# Altium footprint library Silicon Die Holders.PcbLib: 7 footprints
Each footprint in its own frame and in the unit in brackets; x right, y up, seen from the top. Pads: shape width x height; smd on the part's side, far side on the other; paste and mask are expansions set on the pad; w line width, h text height; cw(c..) or ccw(c..) is an arc to the next point about the centre after c.
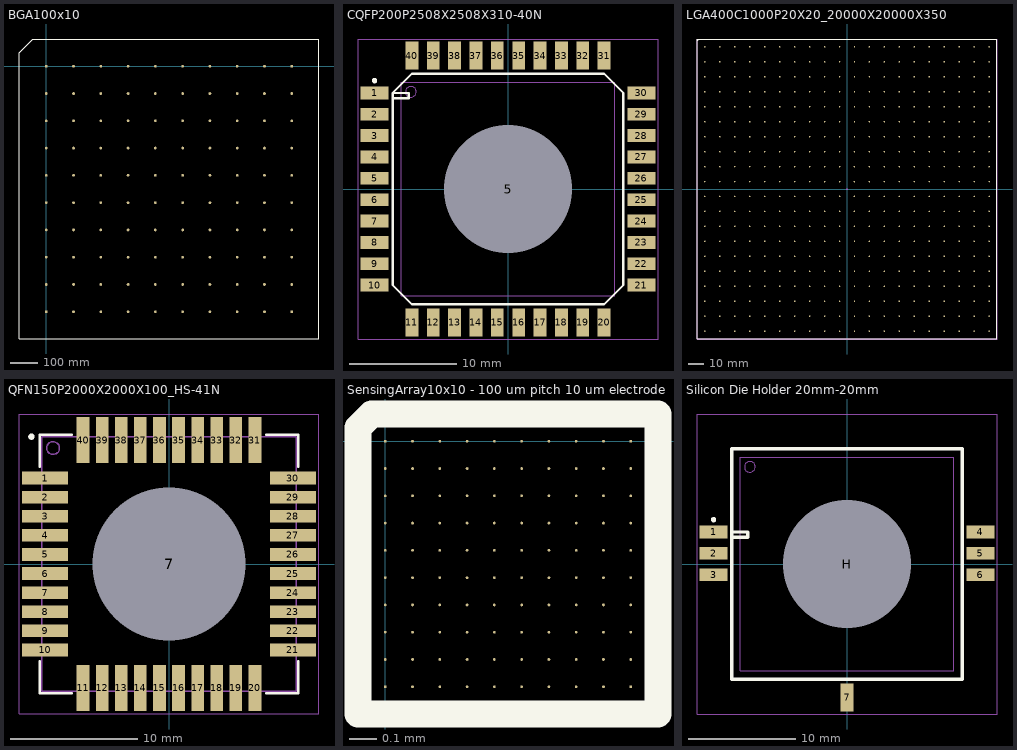
[diagram p0: the footprints below, top view; thin cyan lines are the x and y axes]

## BGA100x10 [mm]
pads (100):
  round 10 smd: A1(0,0) A2(100,0) A3(200,0) A4(300,0) A5(400,0) A6(500,0) A7(600,0) A8(700,0) A9(800,0) A10(900,0) B1(0,-100) B2(100,-100) B3(200,-100) B4(300,-100) B5(400,-100) B6(500,-100) B7(600,-100) B8(700,-100) B9(800,-100) B10(900,-100) C1(0,-200) C2(100,-200) C3(200,-200) C4(300,-200) C5(400,-200) C6(500,-200) C7(600,-200) C8(700,-200) C9(800,-200) C10(900,-200) D1(0,-300) D2(100,-300) D3(200,-300) D4(300,-300) D5(400,-300) D6(500,-300) D7(600,-300) D8(700,-300) D9(800,-300) D10(900,-300) E1(0,-400) E2(100,-400) E3(200,-400) E4(300,-400) E5(400,-400) E6(500,-400) E7(600,-400) E8(700,-400) E9(800,-400) E10(900,-400) F1(0,-500) F2(100,-500) F3(200,-500) F4(300,-500) F5(400,-500) F6(500,-500) F7(600,-500) F8(700,-500) F9(800,-500) F10(900,-500) G1(0,-600) G2(100,-600) G3(200,-600) G4(300,-600) G5(400,-600) G6(500,-600) G7(600,-600) G8(700,-600) G9(800,-600) G10(900,-600) H1(0,-700) H2(100,-700) H3(200,-700) H4(300,-700) H5(400,-700) H6(500,-700) H7(600,-700) H8(700,-700) H9(800,-700) H10(900,-700) J1(0,-800) J2(100,-800) J3(200,-800) J4(300,-800) J5(400,-800) J6(500,-800) J7(600,-800) J8(700,-800) J9(800,-800) J10(900,-800) K1(0,-900) K2(100,-900) K3(200,-900) K4(300,-900) K5(400,-900) K6(500,-900) K7(600,-900) K8(700,-900) K9(800,-900) K10(900,-900)
Top Overlay:
  lines w0.2: -100,-1000 -100,50 -50,100 1000,100 1000,-1000 -100,-1000

## CQFP200P2508X2508X310-40N [mm] "CQFP, 40-Leads, Body 25.08x25.08mm, Pitch 2.00mm, IPC Medium Density"
height 3.1
pads (41):
  rect 2.6x1.2 smd: 1(-12.5,9) 2(-12.5,7) 3(-12.5,5) 4(-12.5,3) 5(-12.5,1) 6(-12.5,-1) 7(-12.5,-3) 8(-12.5,-5) 9(-12.5,-7) 10(-12.5,-9) 21(12.5,-9) 22(12.5,-7) 23(12.5,-5) 24(12.5,-3) 25(12.5,-1) 26(12.5,1) 27(12.5,3) 28(12.5,5) 29(12.5,7) 30(12.5,9)
  round 1.524 hole 12 unplated: 5(0,0)
  rect 1.2x2.6 smd: 11(-9,-12.5) 12(-7,-12.5) 13(-5,-12.5) 14(-3,-12.5) 15(-1,-12.5) 16(1,-12.5) 17(3,-12.5) 18(5,-12.5) 19(7,-12.5) 20(9,-12.5) 31(9,12.5) 32(7,12.5) 33(5,12.5) 34(3,12.5) 35(1,12.5) 36(-1,12.5) 37(-3,12.5) 38(-5,12.5) 39(-7,12.5) 40(-9,12.5)
Top Overlay:
  circle w0.25: c-12.5,10.15 r0.125
  lines w0.2: -10.8,8.5 -9.3,8.5 -9.3,9 -10.8,9 ; -10.8,9 -10.8,-9 -9,-10.8 9,-10.8 10.8,-9 10.8,9 9,10.8 -9,10.8 -10.8,9
Mechanical 13:
  circle w0.1: c-9.1,9.1 r0.5
  lines w0.1: -10,-10 -10,10 10,10 10,-10 -10,-10
Mechanical 15:
  lines w0.05: -14.05,-14.05 -14.05,14.05 14.05,14.05 14.05,-14.05 -14.05,-14.05
  lines w0.1: -0.5,0 0.5,0 ; 0,-0.5 0,0.5
3D body: height 3.1, standoff 0.25, extent -10,-10 10,10

## LGA400C1000P20X20_20000X20000X350 [mm] "LGA, 400-Leads, Body 200.00x200.00mmx3.50mm, Pitch 10.00mm (scale x100)"
height 3.5
pads (400):
  round 1 smd: A1(-95,95) A2(-85,95) A3(-75,95) A4(-65,95) A5(-55,95) A6(-45,95) A7(-35,95) A8(-25,95) A9(-15,95) A10(-5,95) A11(5,95) A12(15,95) A13(25,95) A14(35,95) A15(45,95) A16(55,95) A17(65,95) A18(75,95) A19(85,95) A20(95,95) B1(-95,85) B2(-85,85) B3(-75,85) B4(-65,85) B5(-55,85) B6(-45,85) B7(-35,85) B8(-25,85) B9(-15,85) B10(-5,85) B11(5,85) B12(15,85) B13(25,85) B14(35,85) B15(45,85) B16(55,85) B17(65,85) B18(75,85) B19(85,85) B20(95,85) C1(-95,75) C2(-85,75) C3(-75,75) C4(-65,75) C5(-55,75) C6(-45,75) C7(-35,75) C8(-25,75) C9(-15,75) C10(-5,75) C11(5,75) C12(15,75) C13(25,75) C14(35,75) C15(45,75) C16(55,75) C17(65,75) C18(75,75) C19(85,75) C20(95,75) D1(-95,65) D2(-85,65) D3(-75,65) D4(-65,65) D5(-55,65) D6(-45,65) D7(-35,65) D8(-25,65) D9(-15,65) D10(-5,65) D11(5,65) D12(15,65) D13(25,65) D14(35,65) D15(45,65) D16(55,65) D17(65,65) D18(75,65) D19(85,65) D20(95,65) E1(-95,55) E2(-85,55) E3(-75,55) E4(-65,55) E5(-55,55) E6(-45,55) E7(-35,55) E8(-25,55) E9(-15,55) E10(-5,55) E11(5,55) E12(15,55) E13(25,55) E14(35,55) E15(45,55) E16(55,55) E17(65,55) E18(75,55) E19(85,55) E20(95,55) F1(-95,45) F2(-85,45) F3(-75,45) F4(-65,45) F5(-55,45) F6(-45,45) F7(-35,45) F8(-25,45) F9(-15,45) F10(-5,45) F11(5,45) F12(15,45) F13(25,45) F14(35,45) F15(45,45) F16(55,45) F17(65,45) F18(75,45) F19(85,45) F20(95,45) G1(-95,35) G2(-85,35) G3(-75,35) G4(-65,35) G5(-55,35) G6(-45,35) G7(-35,35) G8(-25,35) G9(-15,35) G10(-5,35) G11(5,35) G12(15,35) G13(25,35) G14(35,35) G15(45,35) G16(55,35) G17(65,35) G18(75,35) G19(85,35) G20(95,35) H1(-95,25) H2(-85,25) H3(-75,25) H4(-65,25) H5(-55,25) H6(-45,25) H7(-35,25) H8(-25,25) H9(-15,25) H10(-5,25) H11(5,25) H12(15,25) H13(25,25) H14(35,25) H15(45,25) H16(55,25) H17(65,25) H18(75,25) H19(85,25) H20(95,25) J1(-95,15) J2(-85,15) J3(-75,15) J4(-65,15) J5(-55,15) J6(-45,15) J7(-35,15) J8(-25,15) J9(-15,15) J10(-5,15) J11(5,15) J12(15,15) J13(25,15) J14(35,15) J15(45,15) J16(55,15) J17(65,15) J18(75,15) J19(85,15) J20(95,15) K1(-95,5) K2(-85,5) K3(-75,5) K4(-65,5) K5(-55,5) K6(-45,5) K7(-35,5) K8(-25,5) K9(-15,5) K10(-5,5) K11(5,5) K12(15,5) K13(25,5) K14(35,5) K15(45,5) K16(55,5) K17(65,5) K18(75,5) K19(85,5) K20(95,5) L1(-95,-5) L2(-85,-5) L3(-75,-5) L4(-65,-5) L5(-55,-5) L6(-45,-5) L7(-35,-5) L8(-25,-5) L9(-15,-5) L10(-5,-5) L11(5,-5) L12(15,-5) L13(25,-5) L14(35,-5) L15(45,-5) L16(55,-5) L17(65,-5) L18(75,-5) L19(85,-5) L20(95,-5) M1(-95,-15) M2(-85,-15) M3(-75,-15) M4(-65,-15) M5(-55,-15) M6(-45,-15) M7(-35,-15) M8(-25,-15) M9(-15,-15) M10(-5,-15) M11(5,-15) M12(15,-15) M13(25,-15) M14(35,-15) M15(45,-15) M16(55,-15) M17(65,-15) M18(75,-15) M19(85,-15) M20(95,-15) N1(-95,-25) N2(-85,-25) N3(-75,-25) N4(-65,-25) N5(-55,-25) N6(-45,-25) N7(-35,-25) N8(-25,-25) N9(-15,-25) N10(-5,-25) N11(5,-25) N12(15,-25) N13(25,-25) N14(35,-25) N15(45,-25) N16(55,-25) N17(65,-25) N18(75,-25) N19(85,-25) N20(95,-25) P1(-95,-35) P2(-85,-35) P3(-75,-35) P4(-65,-35) P5(-55,-35) P6(-45,-35) P7(-35,-35) P8(-25,-35) P9(-15,-35) P10(-5,-35) P11(5,-35) P12(15,-35) P13(25,-35) P14(35,-35) P15(45,-35) P16(55,-35) P17(65,-35) P18(75,-35) P19(85,-35) P20(95,-35) R1(-95,-45) R2(-85,-45) R3(-75,-45) R4(-65,-45) R5(-55,-45) R6(-45,-45) R7(-35,-45) R8(-25,-45) R9(-15,-45) R10(-5,-45) R11(5,-45) R12(15,-45) R13(25,-45) R14(35,-45) R15(45,-45) R16(55,-45) R17(65,-45) R18(75,-45) R19(85,-45) R20(95,-45) T1(-95,-55) T2(-85,-55) T3(-75,-55) T4(-65,-55) T5(-55,-55) T6(-45,-55) T7(-35,-55) T8(-25,-55) T9(-15,-55) T10(-5,-55) T11(5,-55) T12(15,-55) T13(25,-55) T14(35,-55) T15(45,-55) T16(55,-55) T17(65,-55) T18(75,-55) T19(85,-55) T20(95,-55) U1(-95,-65) U2(-85,-65) U3(-75,-65) U4(-65,-65) U5(-55,-65) U6(-45,-65) U7(-35,-65) U8(-25,-65) U9(-15,-65) U10(-5,-65) U11(5,-65) U12(15,-65) U13(25,-65) U14(35,-65) U15(45,-65) U16(55,-65) U17(65,-65) U18(75,-65) U19(85,-65) U20(95,-65) V1(-95,-75) V2(-85,-75) V3(-75,-75) V4(-65,-75) V5(-55,-75) V6(-45,-75) V7(-35,-75) V8(-25,-75) V9(-15,-75) V10(-5,-75) V11(5,-75) V12(15,-75) V13(25,-75) V14(35,-75) V15(45,-75) V16(55,-75) V17(65,-75) V18(75,-75) V19(85,-75) V20(95,-75) W1(-95,-85) W2(-85,-85) W3(-75,-85) W4(-65,-85) W5(-55,-85) W6(-45,-85) W7(-35,-85) W8(-25,-85) W9(-15,-85) W10(-5,-85) W11(5,-85) W12(15,-85) W13(25,-85) W14(35,-85) W15(45,-85) W16(55,-85) W17(65,-85) W18(75,-85) W19(85,-85) W20(95,-85) Y1(-95,-95) Y2(-85,-95) Y3(-75,-95) Y4(-65,-95) Y5(-55,-95) Y6(-45,-95) Y7(-35,-95) Y8(-25,-95) Y9(-15,-95) Y10(-5,-95) Y11(5,-95) Y12(15,-95) Y13(25,-95) Y14(35,-95) Y15(45,-95) Y16(55,-95) Y17(65,-95) Y18(75,-95) Y19(85,-95) Y20(95,-95)
Top Overlay:
  region: -99,100 -100,99 -100,100
  lines w0.2: -100,99 -99,100 ; -100,-100 100,-100 100,100 -100,100 -100,-100
Mechanical 13:
  lines w0.1: -100,-100 100,-100 100,100 -100,100 -100,-100
Mechanical 15:
  lines w0.05: -100.25,-100.25 100.25,-100.25 100.25,100.25 -100.25,100.25 -100.25,-100.25
  lines w0.1: -0.5,0 0.5,0 ; 0,-0.5 0,0.5

## QFN150P2000X2000X100_HS-41N [mm] "QFN, 40-Leads, Body 20.00x20.00mm, Pitch 1.50mm, Thermal Pad 4.00x2.20mm, IPC Medium Density"
height 1
pads (41):
  rect 3.6x1 smd: 1(-9.725,6.75) 2(-9.725,5.25) 3(-9.725,3.75) 4(-9.725,2.25) 5(-9.725,0.75) 6(-9.725,-0.75) 7(-9.725,-2.25) 8(-9.725,-3.75) 9(-9.725,-5.25) 10(-9.725,-6.75) 21(9.725,-6.75) 22(9.725,-5.25) 23(9.725,-3.75) 24(9.725,-2.25) 25(9.725,-0.75) 26(9.725,0.75) 27(9.725,2.25) 28(9.725,3.75) 29(9.725,5.25) 30(9.725,6.75)
  round 1.524 hole 12: 7(0,0)
  rect 1x3.6 smd: 11(-6.75,-9.725) 12(-5.25,-9.725) 13(-3.75,-9.725) 14(-2.25,-9.725) 15(-0.75,-9.725) 16(0.75,-9.725) 17(2.25,-9.725) 18(3.75,-9.725) 19(5.25,-9.725) 20(6.75,-9.725) 31(6.75,9.725) 32(5.25,9.725) 33(3.75,9.725) 34(2.25,9.725) 35(0.75,9.725) 36(-0.75,9.725) 37(-2.25,9.725) 38(-3.75,9.725) 39(-5.25,9.725) 40(-6.75,9.725)
Top Overlay:
  circle w0.25: c-10.8,10 r0.125
  lines w0.2: -10.15,-7.65 -10.15,-10.15 -7.65,-10.15 ; -10.15,7.65 -10.15,10.15 -7.65,10.15 ; 7.65,-10.15 10.15,-10.15 10.15,-7.65 ; 7.65,10.15 10.15,10.15 10.15,7.65
Mechanical 13:
  circle w0.1: c-9.1,9.1 r0.5
  lines w0.1: -10,-10 -10,10 10,10 10,-10 -10,-10
Mechanical 15:
  lines w0.05: -11.775,-11.775 -11.775,11.775 11.775,11.775 11.775,-11.775 -11.775,-11.775
  lines w0.1: -0.5,0 0.5,0 ; 0,-0.5 0,0.5
3D body: height 1, standoff 0.01, extent -10,-10 10,10

## SensingArray10x10 - 100 um pitch 10 um electrode size [mm]
pads (100):
  round 0.01 smd: A1(0,0) A2(0.1,0) A3(0.2,0) A4(0.3,0) A5(0.4,0) A6(0.5,0) A7(0.6,0) A8(0.7,0) A9(0.8,0) A10(0.9,0) B1(0,-0.1) B2(0.1,-0.1) B3(0.2,-0.1) B4(0.3,-0.1) B5(0.4,-0.1) B6(0.5,-0.1) B7(0.6,-0.1) B8(0.7,-0.1) B9(0.8,-0.1) B10(0.9,-0.1) C1(0,-0.2) C2(0.1,-0.2) C3(0.2,-0.2) C4(0.3,-0.2) C5(0.4,-0.2) C6(0.5,-0.2) C7(0.6,-0.2) C8(0.7,-0.2) C9(0.8,-0.2) C10(0.9,-0.2) D1(0,-0.3) D2(0.1,-0.3) D3(0.2,-0.3) D4(0.3,-0.3) D5(0.4,-0.3) D6(0.5,-0.3) D7(0.6,-0.3) D8(0.7,-0.3) D9(0.8,-0.3) D10(0.9,-0.3) E1(0,-0.4) E2(0.1,-0.4) E3(0.2,-0.4) E4(0.3,-0.4) E5(0.4,-0.4) E6(0.5,-0.4) E7(0.6,-0.4) E8(0.7,-0.4) E9(0.8,-0.4) E10(0.9,-0.4) F1(0,-0.5) F2(0.1,-0.5) F3(0.2,-0.5) F4(0.3,-0.5) F5(0.4,-0.5) F6(0.5,-0.5) F7(0.6,-0.5) F8(0.7,-0.5) F9(0.8,-0.5) F10(0.9,-0.5) G1(0,-0.6) G2(0.1,-0.6) G3(0.2,-0.6) G4(0.3,-0.6) G5(0.4,-0.6) G6(0.5,-0.6) G7(0.6,-0.6) G8(0.7,-0.6) G9(0.8,-0.6) G10(0.9,-0.6) H1(0,-0.7) H2(0.1,-0.7) H3(0.2,-0.7) H4(0.3,-0.7) H5(0.4,-0.7) H6(0.5,-0.7) H7(0.6,-0.7) H8(0.7,-0.7) H9(0.8,-0.7) H10(0.9,-0.7) J1(0,-0.8) J2(0.1,-0.8) J3(0.2,-0.8) J4(0.3,-0.8) J5(0.4,-0.8) J6(0.5,-0.8) J7(0.6,-0.8) J8(0.7,-0.8) J9(0.8,-0.8) J10(0.9,-0.8) K1(0,-0.9) K2(0.1,-0.9) K3(0.2,-0.9) K4(0.3,-0.9) K5(0.4,-0.9) K6(0.5,-0.9) K7(0.6,-0.9) K8(0.7,-0.9) K9(0.8,-0.9) K10(0.9,-0.9)
Top Overlay:
  lines w0.1: -0.1,-1 -0.1,0.05 -0.05,0.1 1,0.1 1,-1 -0.1,-1

## Sensor Electrodes [mm]

## Silicon Die Holder 20mm-20mm [mm] "CQFP, 7-Leads, Body 25.08x25.08mm, Pitch 2.00mm, IPC Medium Density"
height 3.1
pads (8):
  rect 2.6x1.2 smd: 1(-12.5,3) 2(-12.5,1) 3(-12.5,-1) 4(12.5,3) 5(12.5,1) 6(12.5,-1)
  rect 1.2x2.6 smd: 7(0,-12.5)
  round 1.524 hole 12 unplated: H(0,0)
Top Overlay:
  circle w0.25: c-12.5,4.15 r0.125
  lines w0.3: -10.8,2.5 -9.3,2.5 -9.3,3 -10.8,3 ; -10.8,-10.8 10.8,-10.8 10.8,10.8 -10.8,10.8 -10.8,-10.8
Mechanical 13:
  circle w0.1: c-9.1,9.1 r0.5
  lines w0.1: -10,-10 10,-10 10,10 -10,10 -10,-10
Mechanical 15:
  lines w0.05: -14.05,-14.05 14.05,-14.05 14.05,14.05 -14.05,14.05 -14.05,-14.05
  lines w0.1: -0.5,0 0.5,0 ; 0,-0.5 0,0.5
3D body: height 3.1, standoff 0.25, extent -10,-10 10,10